# Altium footprint library SOT-223.PcbLib: 1 footprints
Each footprint in its own frame and in the unit in brackets; x right, y up, seen from the top. Pads: shape width x height; smd on the part's side, far side on the other; paste and mask are expansions set on the pad; w line width, h text height; cw(c..) or ccw(c..) is an arc to the next point about the centre after c.
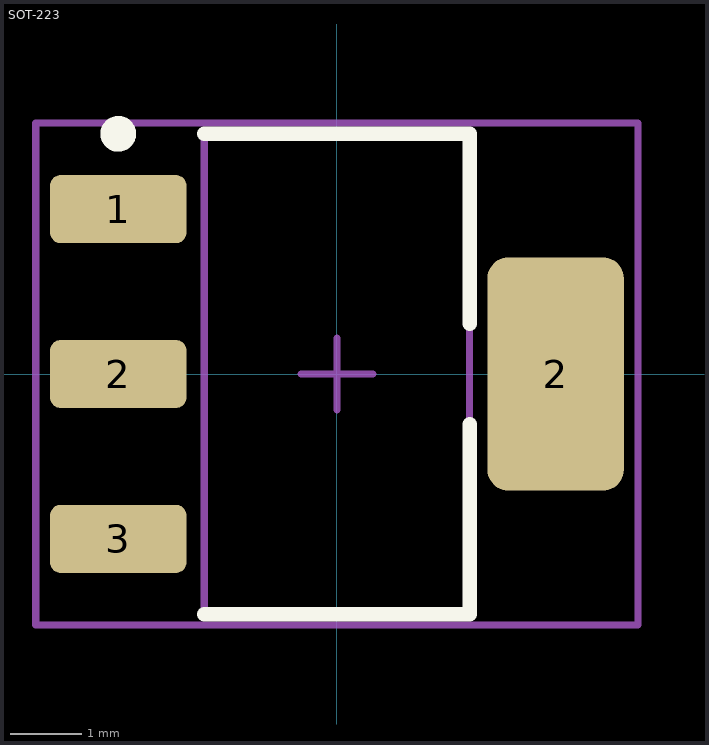
[diagram p0: the footprint, top view; thin cyan lines are the x and y axes]

## SOT-223 [mm] "SOT223, 4-Leads, Body 6.7X3.7mm, Pitch 2.3mm, Lead Span 4.6mm"
height 1.8
pads (4):
  rrect30% 1.9x0.95 smd: 1(-3.05,2.3) 2(-3.05,0) 3(-3.05,-2.3)
  rrect30% 1.9x3.25 smd: 2(3.05,0)
Top Overlay:
  circle w0.25: c-3.05,3.35 r0.125
  lines w0.2: -1.85,-3.35 1.85,-3.35 1.85,-0.7 ; -1.85,3.35 1.85,3.35 1.85,0.7
Mechanical 1:
  text ".Designator" at -3,-1.5 h1
Mechanical 13:
  lines w0.1: -1.85,-3.35 -1.85,3.35 1.85,3.35 1.85,-3.35 -1.85,-3.35
Mechanical 15:
  lines w0.1: -0.5,0 0.5,0 ; 0,-0.5 0,0.5 ; -4.2,-3.5 -4.2,3.5 4.2,3.5 4.2,-3.5 -4.2,-3.5
3D body: height 1.68, standoff 0, extent -3.48,-3.25 3.48,3.25